# Altium footprint library PCB - LEADED - SOP50P326X110-14N.PCBLIB: 1 footprints
Each footprint in its own frame and in the unit in brackets; x right, y up, seen from the top. Pads: shape width x height; smd on the part's side, far side on the other; paste and mask are expansions set on the pad; w line width, h text height; cw(c..) or ccw(c..) is an arc to the next point about the centre after c.
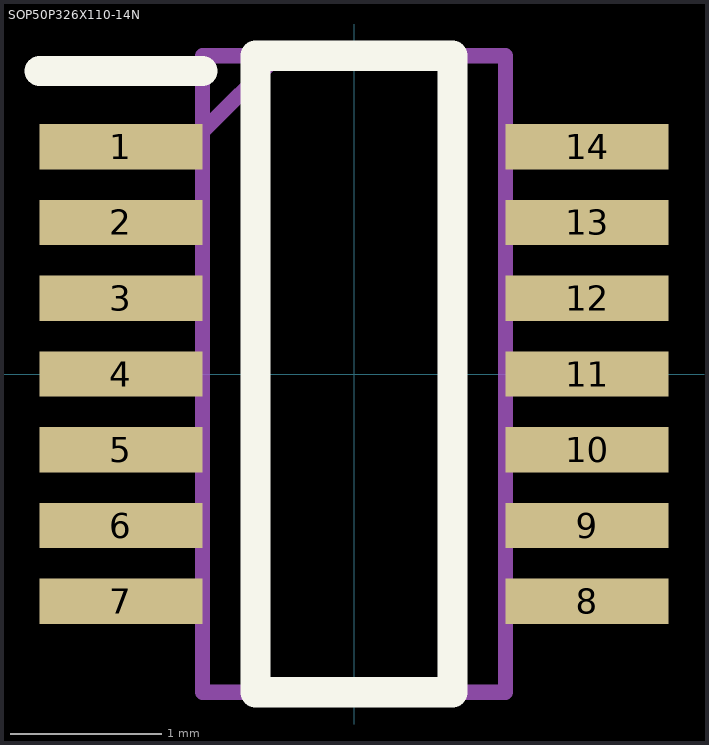
[diagram p0: the footprint, top view; thin cyan lines are the x and y axes]

## SOP50P326X110-14N [mm]
pads (14):
  rect 1.075x0.3 smd: 1(-1.538,1.5) 2(-1.538,1) 3(-1.538,0.5) 4(-1.538,0) 5(-1.538,-0.5) 6(-1.538,-1) 7(-1.538,-1.5) 8(1.538,-1.5) 9(1.538,-1) 10(1.538,-0.5) 11(1.538,0) 12(1.538,0.5) 13(1.538,1) 14(1.538,1.5)
Top Overlay:
  lines w0.2: -2.075,2 -1,2 ; -0.65,-2.1 -0.65,2.1 0.65,2.1 0.65,-2.1 -0.65,-2.1
Top Value (Mech13):
  lines w0.1: -1,1.6 -0.5,2.1 ; -1,-2.1 -1,2.1 1,2.1 1,-2.1 -1,-2.1
3D body "SN74HCS125DYYR.stp": height 1.1, standoff 0, extent -1.63,-2.1 1.63,2.1